# EAGLE library part 6P6C-VERT (library E-P-206-R1.2 Fuel Cell Control (Board to Board))
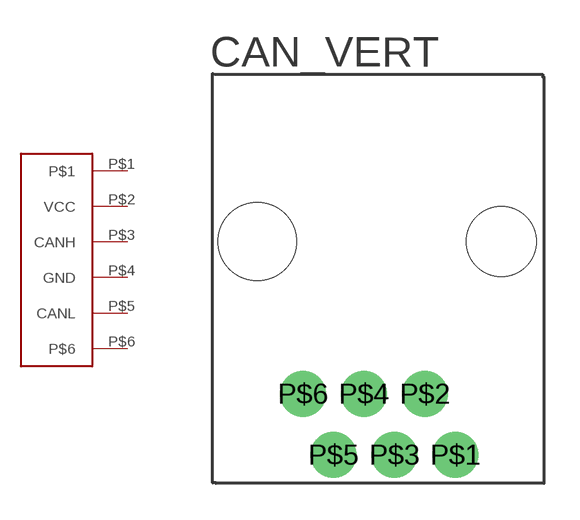
[diagram p1: symbol with the pads of 6P6C-VERT; footprint 6P6C-VERT]

Designator prefix -

## 6P6C-VERT  [6P6C-VERT]
P$1  P$1
P$2  VCC
P$3  CANH
P$4  GND
P$5  CANL
P$6  P$6

## Footprint 6P6C-VERT (pad centres in mm)
drill 1.27: P$1 3.175,-7.442; P$2 1.905,-4.902; P$3 0.635,-7.442; P$4 -0.635,-4.902; P$5 -1.905,-7.442; P$6 -3.175,-4.902
hole 3.251 at -5.08,1.448
hole 2.896 at 5.08,1.448